# EAGLE library part DUAL_OPAMP (library StasDuino_Lib)
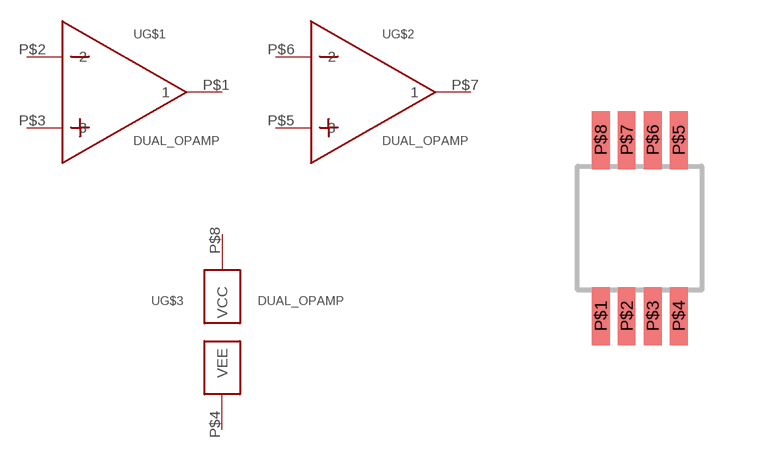
[diagram p4: symbol with the pads of DUAL_OPAMP; footprint DUAL_OPAMP]

Designator prefix -; gates G$1=OPAMP G$2=OPAMP G$3=OPAMP_POWER

## DUAL_OPAMP  [DUAL_OPAMP]
P$1  G$1:1  out
P$2  G$1:2  in
P$3  G$1:3  in
P$4  G$3:VEE
P$5  G$2:3  in
P$6  G$2:2  in
P$7  G$2:1  out
P$8  G$3:VCC

## Footprint DUAL_OPAMP (pad centres in mm)
smd 0.45 x 1.45: P$1 -0.975,-2.2; P$2 -0.325,-2.2; P$3 0.325,-2.2; P$4 0.975,-2.2; P$5 0.975,2.2; P$6 0.325,2.2; P$7 -0.325,2.2; P$8 -0.975,2.2